# EAGLE library part IC-SIM-ST-MFF2 (library nrF9160 Thing Plus temp)
GLOBAL IOT EMBEDDED SIM CHIP
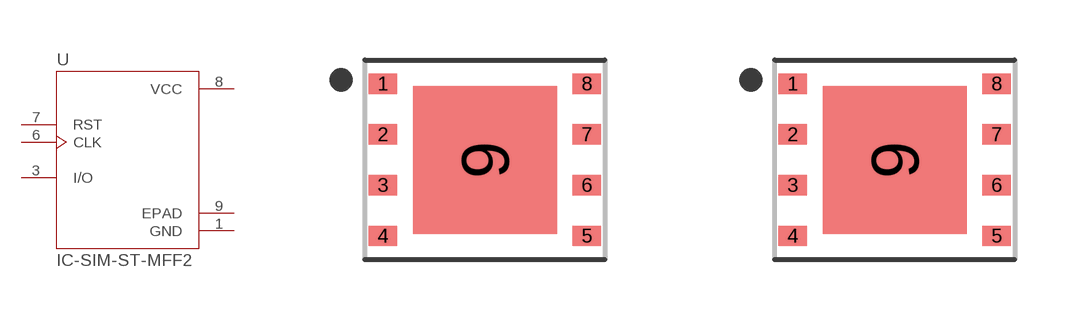
[diagram p0: symbol with the pads of PSON127P500X600X82-9N; footprints PSON127P500X600X82-9N, PSON127P500X600X82-9N_NO_CREAM]

Designator prefix U

## IC-SIM-ST-MFF2 (DESC: GLOBAL IOT EMBEDDED SIM CHIP; DIGIKEYPN: 1887-1002-1-ND; MF: Hologram, Inc.; MPN: SIM-ST-MFF2)  [PSON127P500X600X82-9N]
1  GND  pwr
3  I/O
6  CLK  in
7  RST  in
8  VCC  pwr
9  EPAD  pas

## IC-SIM-ST-MFF2NO_CREAM (DESC: GLOBAL IOT EMBEDDED SIM CHIP; DIGIKEYPN: 1887-1002-1-ND; MF: Hologram, Inc.; MPN: SIM-ST-MFF2)  [PSON127P500X600X82-9N_NO_CREAM]
Pads as for PSON127P500X600X82-9N

## Footprint PSON127P500X600X82-9N (pad centres in mm)
smd 0.71 x 0.51: 1 -2.55,1.905; 2 -2.55,0.635; 3 -2.55,-0.635; 4 -2.55,-1.905; 5 2.55,-1.905; 6 2.55,-0.635; 7 2.55,0.635; 8 2.55,1.905
smd 3.6 x 3.7: 9 0,0

## Footprint PSON127P500X600X82-9N_NO_CREAM (pad centres in mm)
smd 0.71 x 0.51: 1 -2.55,1.905; 2 -2.55,0.635; 3 -2.55,-0.635; 4 -2.55,-1.905; 5 2.55,-1.905; 6 2.55,-0.635; 7 2.55,0.635; 8 2.55,1.905
smd 3.6 x 3.7: 9 0,0